# EAGLE library part LM358 (library microbuilder)
LM358 Dual Operational Amplifier Digikey: LM358AMXFSCT-ND
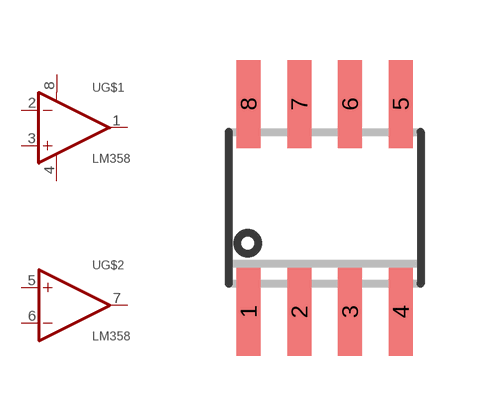
[diagram p57: symbol with the pads of SOIC8_150MIL; footprint SOIC8_150MIL]

Designator prefix U; gates G$1=OPAMP+- G$2=OPAMP

## LM358  [SOIC8_150MIL]
1  G$1:OUT  out
2  G$1:-IN  in
3  G$1:+IN  in
4  G$1:V-  pwr
5  G$2:+IN  in
6  G$2:-IN  in
7  G$2:OUT  out
8  G$1:V+  pwr

## Footprint SOIC8_150MIL (pad centres in mm)
Small Outline IC - 150mil Wide
smd 0.6 x 2.2: 1 -1.905,-2.6; 2 -0.635,-2.6; 3 0.635,-2.6; 4 1.905,-2.6; 5 1.905,2.6; 6 0.635,2.6; 7 -0.635,2.6; 8 -1.905,2.6